# Altium integrated library ICs.IntLib: 71 symbols (part 1 of 2)
Pins are listed as number, name and electrical type; pins without a type are passive.

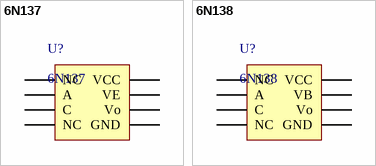
[diagram p0: symbols 6N137 to 6N138]

## 6N137
designator U?
footprint PDIP-8
pins: 1 NC, 2 A, 3 C, 4 NC, 5 GND, 6 Vo, 7 VE, 8 VCC

## 6N138
designator U?
footprint PDIP-8
pins: 1 NC, 2 A, 3 C, 4 NC, 5 GND, 6 Vo, 7 VB, 8 VCC


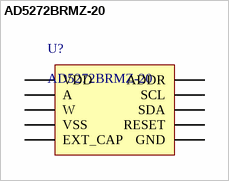
[diagram p1: symbol AD5272BRMZ-20]

## AD5272BRMZ-20
designator U?
Digital Potentiometer ICs 1024p 5v SGL CHI2C 50-TP Mem Digi Rstat; Manufacturer: Texas Instruments; PartNumber: AD5272BRMZ-20; PackageReference: MSOP-10; PackageDescription: MSOP, 10-Leads, Body 3.00x3.00mm, Pitch 0.50mm, IPC Medium Density; Mounting Technology: Surface Mount
footprint MSOP-10 (TSSOP, 10-Leads, Body 3.00x3.00mm, Pitch 0.50mm, IPC Medium Density)
pins: 1 VDD, 2 A, 3 W, 4 VSS, 5 EXT_CAP, 6 GND, 7 RESET, 8 SDA, 9 SCL, 10 ADDR


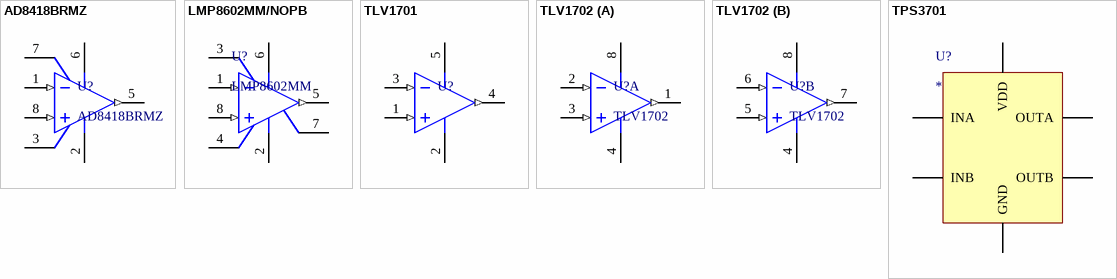
[diagram p2: symbols AD8418BRMZ to TPS3701]

## AD8418BRMZ
designator U?
Current Sense Amplifiers Zero Drift ,Precision Current Sense AMP; Manufacturer: Analog Devices; PartNumber: AD8418BRMZ; Mounting Technology: Surface Mount; PackageReference: MSOP-8; PackageDescription: SOP, 8-Leads, Body 3x3mm, Pitch 0.65mm, IPC Medium Density
footprint MSOP-8 (SOP, 8-Leads, Body 3x3mm, Pitch 0.65mm, IPC Medium Density)
pins: 1 IN- (in), 2 GND (power), 3 VREF2, 5 OUT (out), 6 VS (power), 7 VREF1, 8 IN+ (in)

## LMP8602MM/NOPB
designator U?, comment LMP8602MM
Current Sense Amplifiers 60-V, Bi-Directional, Low- or High-Side, Voltage Output Current Sensing Amplifier 8-VSSOP -40 to 125; Manufacturer: Texas Instruments; PartNumber: LMP8602MM/NOPB; Mounting Technology: Surface Mount; PackageReference: MSOP-8
footprint MSOP-8 (SOP, 8-Leads, Body 3x3mm, Pitch 0.65mm, IPC Medium Density)
pins: 1 IN- (in), 2 GND (power), 3 A1, 4 A2, 5 OUT (out), 6 VS (power), 7 OFS, 8 IN+ (in)

## TLV1701
designator U?  (value not drawn)
1 Channel microPower Comparator; Manufacturer: Texas Instruments; PartNumber: TLV1701; Mounting Technology: Surface Mount; PackageReference: SOT-23; PackageDescription: SOP, 5-Leads, Body 1.75x3mm, Pitch 0.6mm, IPC Medium Density
footprint SOT23/MF05A
pins: 1 IN+ (in), 2 GND (power), 3 IN- (in), 4 OUT (out), 5 VS (power)

## TLV1702
designator U?
2 Channel microPower Comparator; Manufacturer: Texas Instruments; PartNumber: TLV1702; Mounting Technology: Surface Mount; PackageReference: VSSOP-8; PackageDescription: SOP, 8-Leads, Body 3x3mm, Pitch 0.65mm, IPC Medium Density
footprint TSSOP-8 (TSOP, 8-Leads, Body 3.00x3.00mm, Pitch 0.65mm, IPC Medium Density)
part A pins: 1 1OUT (out), 2 1IN- (in), 3 1IN+ (in), 4 GND (power), 8 VS (power)
part B pins: 4 GND (power), 5 2IN+ (in), 6 2IN- (in), 7 2OUT (out), 8 VS (power)

## TPS3701
designator U?
Manufacturer: Texas Instruments; PartNumber: TPS3701; Mounting Technology: Surface Mount; PackageDescription: SOP, 6-Leads, Body 3x3mm, Pitch 0.65mm, IPC Medium Density; PackageReference: SOT-23-6
footprint SOT-23-6 (SOT23, 6-Leads, Body 2.90x1.60mm, Pitch 0.95mm, IPC Medium Density)
pins: 1 OUTA, 2 GND (power), 3 INA, 4 INB, 5 VDD (power), 6 OUTB


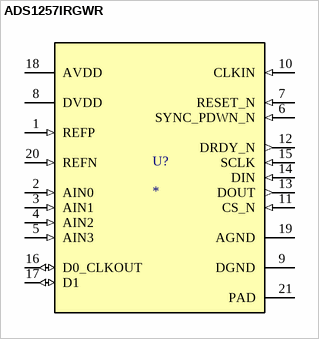
[diagram p3: symbol ADS1257IRGWR]

## ADS1257IRGWR
designator U?
24-Bit, 30kSPS, 4-Ch Industrial ADC With Integrated PGA; PartNumber: ADS1257IRGWR; Alternate_PartNumber: ADS1257IRGW; Manufacturer: Texas Instruments; CompType: IC; PIN_COUNT: 21; Application_BuildNumber: *; PackageReference: RGW0020A; MountType: SMT; RefDes: RefDes; TYPE: TYPE; Value: Value
footprint VQFN-20/RGW
pins: 1 REFP (in), 2 AIN0 (in), 3 AIN1 (in), 4 AIN2 (in), 5 AIN3 (in), 6 SYNC_PDWN_N (in), 7 RESET_N (in), 8 DVDD (power), 9 DGND (power), 10 CLKIN (in), 11 CS_N (in), 12 DRDY_N (out), 13 DOUT (out), 14 DIN (in), 15 SCLK (in), 16 D0_CLKOUT (io), 17 D1 (io), 18 AVDD (power), 19 AGND (power), 20 REFN (in), 21 PAD (power)


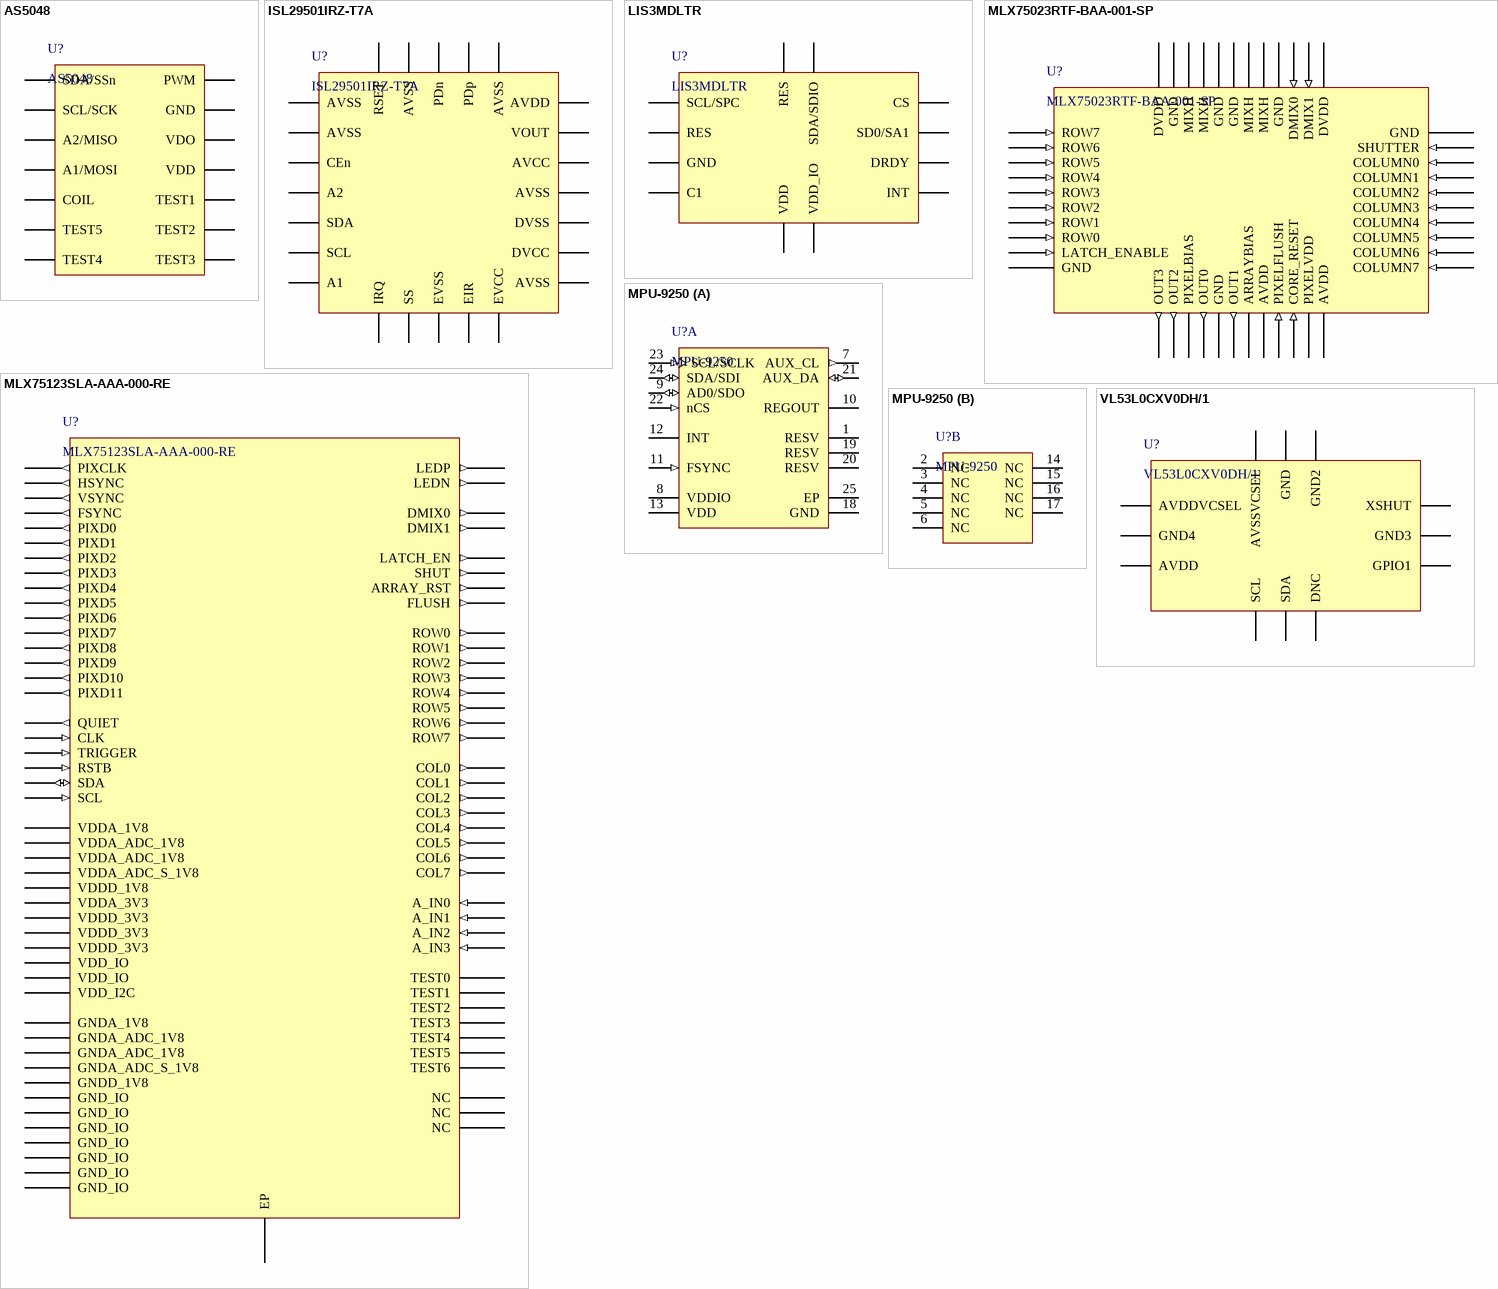
[diagram p4: symbols AS5048 to VL53L0CXV0DH/1]

## AS5048
designator U?
14-bit rotary position sensor with digital angle (interface) and PWM output; Manufacturer: AMS; PartNumber: AS5048; Mounting Technology: Surface Mount; PackageReference: TSSOP-14
footprint TSSOP-14
pins: 1 SDA/SSn, 2 SCL/SCK, 3 A2/MISO, 4 A1/MOSI, 5 COIL, 6 TEST5, 7 TEST4, 8 TEST3, 9 TEST2, 10 TEST1, 11 VDD, 12 VDO, 13 GND, 14 PWM

## ISL29501IRZ-T7A
designator U?
IC TOF SIGNAL PROCESSOR 24QFN; Manufacturer: Intersil; PartNumber: ISL29501IRZ-T7A; Mounting Technology: Surface Mount; PackageReference: QFN-24
footprint QFN-24 (QFN, 24-Leads, Body 4.00x4.00mm, Pitch 0.50mm, Thermal Pad 2.60x3.60mm, IPC Medium Density); pin to pad 23>23+25
pins: 1 AVSS, 2 AVSS, 3 CEn, 4 A2 (power), 5 SDA, 6 SCL, 7 A1, 8 IRQ, 9 SS, 10 EVSS, 11 EIR, 12 EVCC, 13 AVSS, 14 DVCC, 15 DVSS, 16 AVSS, 17 AVCC, 18 VOUT, 19 AVDD, 20 AVSS, 21 PDp, 22 PDn, 23 AVSS, 24 RSET

## LIS3MDLTR
designator U?
Board Mount Hall Effect / Magnetic Sensors Ultra Lo-Pwr Hi Perf 3-Axis 1.9-3.6V; Manufacturer: STMicroelectronics; PartNumber: LIS3MDLTR; Mounting Technology: Surface Mount; PackageReference: LGA-12
footprint LGA-12 (2x2MM) (LGA, 12-Leads, Body 2.00x2.00mmx1.00mm, Pitch 0.50mm)
pins: 1 SCL/SPC, 2 RES, 3 GND, 4 C1, 5 VDD, 6 VDD_IO, 7 INT, 8 DRDY, 9 SD0/SA1, 10 CS, 11 SDA/SDIO, 12 RES

## MLX75023RTF-BAA-001-SP
designator U?
Manufacturer: Melexis; PartNumber: MLX75023RTF-BAA-001-SP; Mounting Technology: Surface Mount; PackageReference: BGA-44
footprint BGA-44 (BGA, 44-Leads, Body 6.61x5.48mmx0.50mm, Pitch 0.48mm)
pins: 1 ROW7 (in), 2 ROW6 (in), 3 ROW5 (in), 4 ROW4 (in), 5 ROW3 (in), 6 ROW2 (in), 7 ROW1 (in), 8 ROW0 (in), 9 LATCH_ENABLE (in), 10 GND (power), 11 OUT3 (out), 12 OUT2 (out), 13 PIXELBIAS, 14 OUT0 (out), 15 GND (power), 16 OUT1 (out), 17 ARRAYBIAS, 18 AVDD (power), 19 PIXELFLUSH (in), 20 CORE_RESET (in), 21 PIXELVDD (power), 22 AVDD (power), 23 COLUMN7 (in), 24 COLUMN6 (in), 25 COLUMN5 (in), 26 COLUMN4 (in), 27 COLUMN3 (in), 28 COLUMN2 (in), 29 COLUMN1 (in), 30 COLUMN0 (in), 31 SHUTTER (in), 32 GND (power), 33 DVDD (power), 34 DMIX1 (in), 35 DMIX0 (in), 36 GND (power), 37 MIXH (power), 38 MIXH (power), 39 GND (power), 40 GND (power), 41 MIXH (power), 42 MIXH (power), 43 GND (power), 44 DVDD (power)

## MLX75123SLA-AAA-000-RE
designator U?
Sensor Interface ToF Companion Chip; Manufacturer: Melexis; PackageReference: AQFN-84; Mounting Technology: Surface Mount; PartNumber: MLX75123SLA-AAA-000-RE
footprint AQFN-84 (Double Row QFN, 84-Leads, Body 7.00x7.00mm, Pitch 0.50mm, Thermal Pad 3.60x3.60mm, IPC High Density)
pins: A1 ROW5 (out), A2 ROW7 (out), A3 ARRAY_RST (out), A4 LATCH_EN (out), A5 GNDA_ADC_1V8 (power), A6 A_IN1 (in), A7 A_IN2 (in), A8 GND_IO (power), A9 VDDA_ADC_1V8 (power), A10 VDDA_ADC_S_1V8 (power), A11 TEST5, A12 SCL (in), A13 TRIGGER (in), A14 RSTB (in), A15 QUIET (out), A16 GNDA_1V8 (power), A16 TEST4, A17 TEST3, A18 GND_IO (power), A19 NC, A20 NC, A21 TEST0, A22 GNDD_1V8 (power), A23 NC, A24 GND_IO (power), A25 PIXD10 (out), A26 PIXD8 (out), A27 PIXD6 (out), A28 PIXD4 (out), A29 PIXD2 (out), A30 PIXD0 (out), A31 FSYNC (out), A32 VSYNC (out), A33 GND_IO (power), A34 LEDN (out), A35 DMIX0 (out), A36 VDDD_3V3 (power), A37 COL7 (out), A38 COL5 (out), A39 COL3 (out), A40 COL1 (out), A41 GND_IO (power), A42 ROW0 (out), A43 ROW2 (out), A44 ROW4 (out), B1 ROW6 (out), B2 SHUT (out), B3 FLUSH (out), B4 VDDA_3V3 (power), B5 VDDA_ADC_1V8 (power), B6 A_IN0 (in), B7 A_IN3 (in), B8 GNDA_ADC_1V8 (power), B9 GNDA_ADC_S_1V8 (power), B10 TEST6, B11 SDA (io), B12 VDD_I2C (power), B13 CLK (in), B14 VDDA_1V8 (power), B15 GND_IO (power), B17 VDDD_3V3 (power), B18 TEST2, B19 TEST1, B20 VDDD_1V8 (power), B21 VDD_IO (power), B22 PIXD11 (out), B23 PIXD9 (out), B24 PIXD7 (out), B25 PIXD5 (out), B26 PIXD3 (out), B27 PIXD1 (out), B28 PIXCLK (out), B29 HSYNC (out), B30 VDD_IO (power), B31 LEDP (out), B32 DMIX1 (out), B33 GND_IO (power), B34 COL6 (out), B35 COL4 (out), B36 COL2 (out), B37 COL0 (out), B38 VDDD_3V3 (power), B39 ROW1 (out), B40 ROW3 (out), EP

## MPU-9250
designator U?
Manufacturer: Invensense; PartNumber: MPU-9250; Mounting Technology: Surface Mount; PackageReference: QFN-24
footprint QFN-24 (6mil) (6mil, Thermal Pad 1.54x1.70mm, IPC High Density)
part A pins: 1 RESV (power) "Reserved. Connect to VDDIO", 7 AUX_CL (out) "I2C Master serial clock, for connecting to external sensors", 8 VDDIO (power) "Digital I/O supply voltage", 9 AD0/SDO (io) "I2C Slave Address LSB (AD0); SPI serial data output (SDO)", 10 REGOUT "Regulator filter capacitor connection", 11 FSYNC (in) "Frame synchronization digital input. Connect to GND if unused", 12 INT (hiz) "Interrupt digital output (totem pole or open-drain)", 13 VDD (power) "Power supply voltage and Digital I/O supply voltage", 18 GND (power) "Pow er supply ground", 19 RESV "Reserved. Do not connect", 20 RESV (power) "Reserved. Connect to GND", 21 AUX_DA (io) "I2C master serial data, for connecting to external sensors", 22 nCS (in) "Chip select (SPI mode only)", 23 SCL/SCLK (in) "I2C serial clock (SCL); SPI serial clock (SCLK)", 24 SDA/SDI (io) "I2C serial data (SDA); SPI serial data input (SDI)", 25 EP
part B pins: 2 NC "Not internally connected. May be used for PCB trace routing", 3 NC "Not internally connected. May be used for PCB trace routing", 4 NC "Not internally connected. May be used for PCB trace routing", 5 NC "Not internally connected. May be used for PCB trace routing", 6 NC "Not internally connected. May be used for PCB trace routing", 14 NC "Not internally connected. May be used for PCB trace routing", 15 NC "Not internally connected. May be used for PCB trace routing", 16 NC "Not internally connected. May be used for PCB trace routing", 17 NC "Not internally connected. May be used for PCB trace routing"

## VL53L0CXV0DH/1
designator U?
Optical Sensor Modules Time-of-Flight (ToF) ranging sensor; Manufacturer: STMicroelectronics; PartNumber: VL53L0CXV0DH/1; Mounting Technology: Surface Mount; PackageReference: LGA-12
footprint LGA-12 (LGA, 12-Leads, Body 4.40x2.40mmx1.05mm, Pitch 0.80mm)
pins: 1 AVDDVCSEL, 2 AVSSVCSEL, 3 GND, 4 GND2, 5 XSHUT, 6 GND3, 7 GPIO1, 8 DNC, 9 SDA, 10 SCL, 11 AVDD, 12 GND4


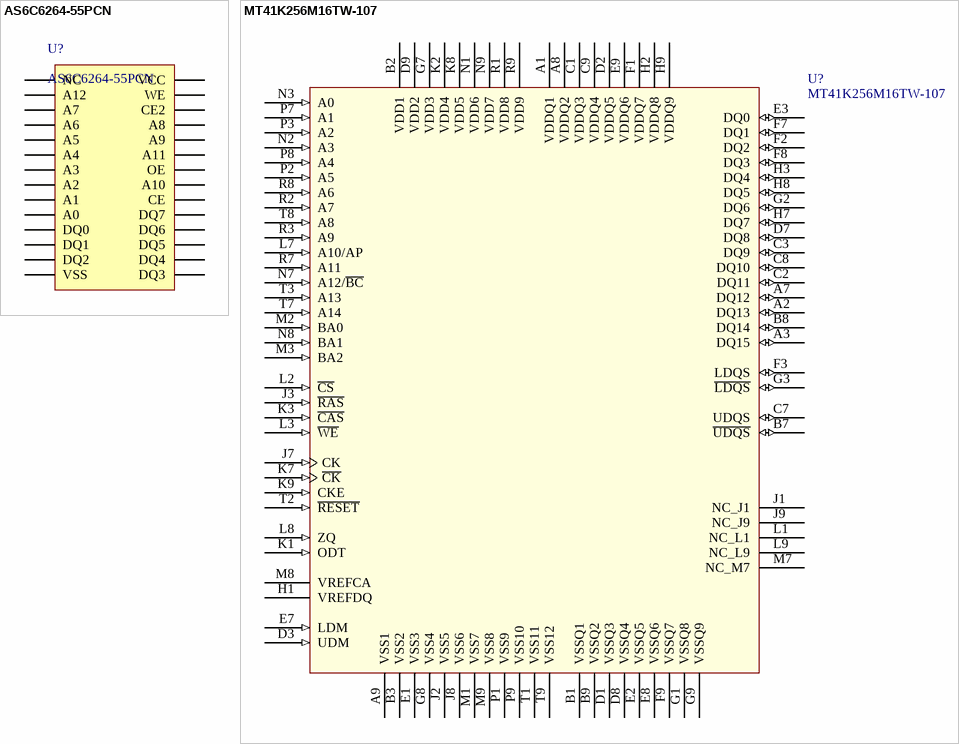
[diagram p5: symbols AS6C6264-55PCN to MT41K256M16TW-107]

## AS6C6264-55PCN
designator U?
Manufacturer: Alliance Memory, Inc.; PartNumber: AS6C6264-55PCN; Mounting Technology: Through Hole; PackageReference: PDIP-28
footprint PDIP-28
pins: 1 NC, 2 A12, 3 A7, 4 A6, 5 A5, 6 A4, 7 A3, 8 A2, 9 A1, 10 A0, 11 DQ0, 12 DQ1, 13 DQ2, 14 VSS, 15 DQ3, 16 DQ4, 17 DQ5, 18 DQ6, 19 DQ7, 20 CE, 21 A10, 22 OE, 23 A11, 24 A9, 25 A8, 26 CE2, 27 WE, 28 VCC

## MT41K256M16TW-107
designator U?
IC SDRAM 4GBIT 933MHZ 96FBGA; Manufacturer: Micron Technology; PartNumber: MT41K256M16TW-107; Mounting Technology: Surface Mount; PackageReference: BGA-96
footprint BGA-96 (BGA, 96-Leads, Body 8.00x14.00mmx1.10mm, Pitch 0.80mm)
pins: A1 VDDQ1 (power), A2 DQ13 (io), A3 DQ15 (io), A7 DQ12 (io), A8 VDDQ2 (power), A9 VSS1 (power), B1 VSSQ1 (power), B2 VDD1 (power), B3 VSS2 (power), B7 ~{UDQS} (io), B8 DQ14 (io), B9 VSSQ2 (power), C1 VDDQ3 (power), C2 DQ11 (io), C3 DQ9 (io), C7 UDQS (io), C8 DQ10 (io), C9 VDDQ4 (power), D1 VSSQ3 (power), D2 VDDQ5 (power), D3 UDM (in), D7 DQ8 (io), D8 VSSQ4 (power), D9 VDD2 (power), E1 VSS3 (power), E2 VSSQ5 (power), E3 DQ0 (io), E7 LDM (in), E8 VSSQ6 (power), E9 VDDQ6 (power), F1 VDDQ7 (power), F2 DQ2 (io), F3 LDQS (io), F7 DQ1 (io), F8 DQ3 (io), F9 VSSQ7 (power), G1 VSSQ8 (power), G2 DQ6 (io), G3 ~{LDQS} (io), G7 VDD3 (power), G8 VSS4 (power), G9 VSSQ9 (power), H1 VREFDQ (power), H2 VDDQ8 (power), H3 DQ4 (io), H7 DQ7 (io), H8 DQ5 (io), H9 VDDQ9 (power), J1 NC_J1, J2 VSS5 (power), J3 ~{RAS} (in), J7 CK (in), J8 VSS6 (power), J9 NC_J9, K1 ODT (in), K2 VDD4 (power), K3 ~{CAS} (in), K7 ~{CK} (in), K8 VDD5 (power), K9 CKE (in), L1 NC_L1, L2 ~{CS} (in), L3 ~{WE} (in), L7 A10/AP (in), L8 ZQ (in), L9 NC_L9, M1 VSS7 (power), M2 BA0 (in), M3 BA2 (in), M7 NC_M7, M8 VREFCA (power), M9 VSS8 (power), N1 VDD6 (power), N2 A3 (in), N3 A0 (in), N7 A12/~{BC} (in), N8 BA1 (in), N9 VDD7 (power), P1 VSS9 (power), P2 A5 (in), P3 A2 (in), P7 A1 (in), P8 A4 (in), P9 VSS10 (power), R1 VDD8 (power), R2 A7 (in), R3 A9 (in), R7 A11 (in), R8 A6 (in), R9 VDD9 (power), T1 VSS11 (power), T2 ~{RESET} (in), T3 A13 (in), T7 A14 (in), T8 A8 (in), T9 VSS12 (power)


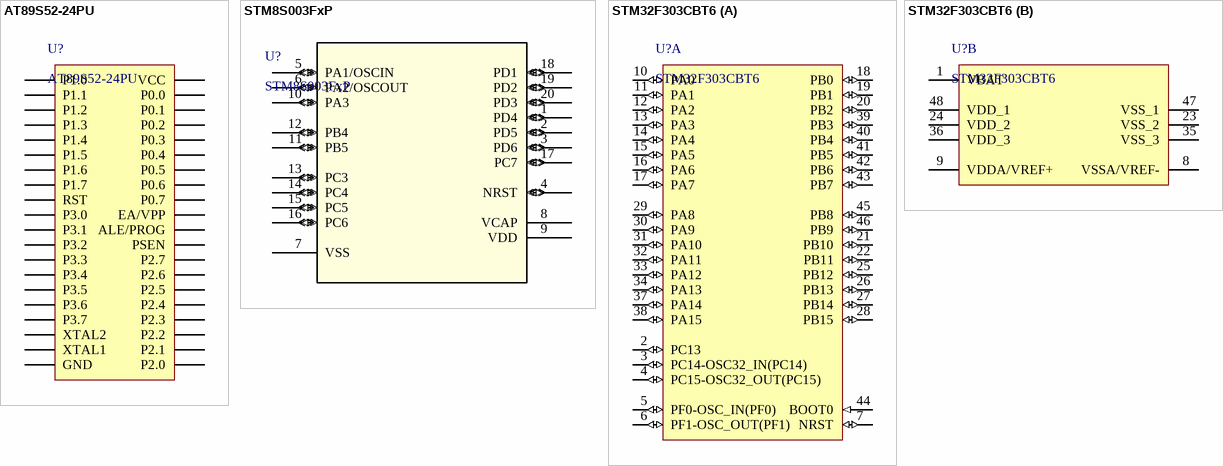
[diagram p6: symbols AT89S52-24PU to STM32F303CBT6]

## AT89S52-24PU
designator U?
Manufacturer: Atmel; PartNumber: AT89S52-24PU; Mounting Technology: Through Hole; PackageReference: PDIP-40
footprint PDIP-40
pins: 1 P1.0, 2 P1.1, 3 P1.2, 4 P1.3, 5 P1.4, 6 P1.5, 7 P1.6, 8 P1.7, 9 RST, 10 P3.0, 11 P3.1, 12 P3.2, 13 P3.3, 14 P3.4, 15 P3.5, 16 P3.6, 17 P3.7, 18 XTAL2, 19 XTAL1, 20 GND, 21 P2.0, 22 P2.1, 23 P2.2, 24 P2.3, 25 P2.4, 26 P2.5, 27 P2.6, 28 P2.7, 29 PSEN, 30 ALE/PROG, 31 EA/VPP, 32 P0.7, 33 P0.6, 34 P0.5, 35 P0.4, 36 P0.3, 37 P0.2, 38 P0.1, 39 P0.0, 40 VCC

## STM8S003FxP
designator U?
8-bit MCU with 8 Kbytes Flash, 16 MHz CPU, integrated EEPROM; Manufacturer: STMicroelectronics; Part Number: STM8S003FxP; Mounting Technology: Surface Mount; PackageReference: TSSOP-20
footprint TSSOP-20
pins: 1 PD4 (io), 2 PD5 (io), 3 PD6 (io), 4 NRST (io), 5 PA1/OSCIN (io), 6 PA2/OSCOUT (io), 7 VSS (power), 8 VCAP (power), 9 VDD (power), 10 PA3 (io), 11 PB5 (io), 12 PB4 (io), 13 PC3 (io), 14 PC4 (io), 15 PC5 (io), 16 PC6 (io), 17 PC7 (io), 18 PD1 (io), 19 PD2 (io), 20 PD3 (io)

## STM32F303CBT6
designator U?
Manufacturer: STMicroelectronics; PartNumber: STM32F303CBT6; Mounting Technology: Surface Mount; PackageReference: LQFP-48; PackageDescription: QFP, 48-Leads, Body 7x7mm, Pitch 0.5mm
footprint LQFP-48 (QFP, 48-Leads, Body 7x7mm, Pitch 0.5mm, IPC High Density)
part A pins: 2 PC13 (io) "PC13/TIM1_CH1N/WKUP2,RTC_TAMP1,RTC_TS,RTC_OUT", 3 PC14-OSC32_IN(PC14) (io) "PC14-OSC32_IN(PC14)/OSC32_IN", 4 PC15-OSC32_OUT(PC15) (io) "PC15-OSC32_OUT(PC15)/OSC32_OUT", 5 PF0-OSC_IN(PF0) (io) "PF0-OSC_IN(PF0)/TIM1_CH3N,I2C2_SDA/OSC_IN", 6 PF1-OSC_OUT(PF1) (io) "PF1-OSC_OUT(PF1)/I2C2_SCL/OSC_OUT", 7 NRST (io) "Device reset input / internal reset output (active low)", 10 PA0 (io) "PA0/USART2_CTS,TIM2_CH1_ETR,TIM8_BKIN,TIM8_ETR,TSC_G1_IO1,COMP1_OUT,EVENTOUT/ADC1_IN1,COMP1_INM,RTC_TAMP2,WKUP1,COMP7_INP", 11 PA1 (io) "PA1/USART2_RTS,TIM2_CH2,TSC_G1_IO2,TIM15_CH1N,RTC_REFIN,EVENTOUT/ADC1_IN2,COMP1_INP,OPAMP1_VINP,OPAMP3_VINP", 12 PA2 (io) "PA2/USART2_TX,TIM2_CH3,TIM15_CH1,TSC_G1_IO3,COMP2_OUT,EVENTOUT/ADC1_IN3,COMP2_INM,OPAMP1_VOUT", 13 PA3 (io) "PA3/USART2_RX,TIM2_CH4,TIM15_CH2,TSC_G1_IO4,EVENTOUT/ADC1_IN4,OPAMP1_VINP,COMP2_INP,OPAMP1_VINM", 14 PA4 (io) "PA4/SPI1_NSS,SPI3_NSS,I2S3_WS,USART2_CK,TSC_G2_IO1,TIM3_CH2,EVENTOUT/ADC2_IN1,DAC1_OUT1,OPAMP4_VINP,COMP1_INM,COMP2_INM,COMP3_INM,COMP4_INM,COMP5_INM,COMP6_INM,COMP7_INM", 15 PA5 (io) "PA5/SPI1_SCK,TIM2_CH1_ETR,TSC_G2_IO2,EVENTOUT/ADC2_IN2,DAC1_OUT2,OPAMP1_VINP,OPAMP2_VINM,OPAMP3_VINP,COMP1_INM,COMP2_INM,COMP3_INM,COMP4_INM,COMP5_INM,COMP6_INM,COMP7_INM", 16 PA6 (io) "PA6/SPI1_MISO,TIM3_CH1,TIM8_BKIN,TIM1_BKIN,TIM16_CH1,COMP1_OUT,TSC_G2_IO3,EVENTOUT/ADC2_IN3,OPAMP2_VOUT", 17 PA7 (io) "PA7/SPI1_MOSI,TIM3_CH2,TIM17_CH1,TIM1_CH1N,TIM8_CH1N,TSC_G2_IO4,COMP2_OUT,EVENTOUT/ADC2_IN4,COMP2_INP,OPAMP2_VINP,OPAMP1_VINP", 18 PB0 (io) "PB0/TIM3_CH3,TIM1_CH2N,TIM8_CH2N,TSC_G3_IO2,EVENTOUT/ADC3_IN12,COMP4_INP,OPAMP3_VINP,OPAMP2_VINP", 19 PB1 (io) "PB1/TIM3_CH4,TIM1_CH3N,TIM8_CH3N,COMP4_OUT,TSC_G3_IO3,EVENTOUT/ADC3_IN1,OPAMP3_VOUT", 20 PB2 (io) "PB2/TSC_G3_IO4,EVENTOUT/ADC2_IN12,COMP4_INM,OPAMP3_VINM", 21 PB10 (io) "PB10/USART3_TX,TIM2_CH3,TSC_SYNC,EVENTOUT/COMP5_INM,OPAMP4_VINM,OPAMP3_VINM", 22 PB11 (io) "PB11/USART3_RX,TIM2_CH4,TSC_G6_IO1,EVENTOUT/COMP6_INP,OPAMP4_VINP", 25 PB12 (io) "PB12/SPI2_NSS,I2S2_WS,I2C2_SMBA,USART3_CK,TIM1_BKIN,TSC_G6_IO2,EVENTOUT/ADC4_IN3,COMP3_INM,OPAMP4_VOUT", 26 PB13 (io) "PB13/SPI2_SCK,I2S2_CK,USART3_CTS,TIM1_CH1N,TSC_G6_IO3,EVENTOUT/ADC3_IN5,COMP5_INP,OPAMP4_VINP,OPAMP3_VINP", 27 PB14 (io) "PB14/SPI2_MISO,I2S2ext_SD,USART3_RTS,TIM1_CH2N,TIM15_CH1,TSC_G6_IO4,EVENTOUT/COMP3_INP,ADC4_IN4,OPAMP2_VINP", 28 PB15 (io) "PB15/SPI2_MOSI,I2S2_SD,TIM1_CH3N,RTC_REFIN,TIM15_CH1N,TIM15_CH2,EVENTOUT/ADC4_IN5,COMP6_INM", 29 PA8 (io) "PA8/I2C2_SMBA,I2S2_MCK,USART1_CK,TIM1_CH1,TIM4_ETR,MCO,COMP3_OUT,EVENTOUT", 30 PA9 (io) "PA9/I2C2_SCL,I2S3_MCK,USART1_TX,TIM1_CH2,TIM2_CH3,TIM15_BKIN,TSC_G4_IO1,COMP5_OUT,EVENTOUT", 31 PA10 (io) "PA10/I2C2_SDA,USART1_RX,TIM1_CH3,TIM2_CH4,TIM8_BKIN,TIM17_BKIN,TSC_G4_IO2,COMP6_OUT,EVENTOUT", 32 PA11 (io) "PA11/USART1_CTS,USB_DM,CAN_RX,TIM1_CH1N,TIM1_CH4,TIM1_BKIN2,TIM4_CH1,COMP1_OUT,EVENTOUT", 33 PA12 (io) "PA12/USART1_RTS,USB_DP,CAN_TX,TIM1_CH2N,TIM1_ETR,TIM4_CH2,TIM16_CH1,COMP2_OUT,EVENTOUT", 34 PA13 (io) "PA13/USART3_CTS,TIM4_CH3,TIM16_CH1N,TSC_G4_IO3,IR_OUT,SWDIO-JTMS,EVENTOUT", 37 PA14 (io) "PA14/I2C1_SDA,USART2_TX,TIM8_CH2,TIM1_BKIN,TSC_G4_IO4,SWCLK-JTCK,EVENTOUT", 38 PA15 (io) "PA15/I2C1_SCL,SPI1_NSS,SPI3_NSS,I2S3_WS,JTDI,USART2_RX,TIM1_BKIN,TIM2_CH1_ETR,TIM8_CH1,EVENTOUT", 39 PB3 (io) "PB3/SPI3_SCK,I2S3_CK,SPI1_SCK,USART2_TX,TIM2_CH2,TIM3_ETR,TIM4_ETR,TIM8_CH1N,TSC_G5_IO1,JTDO-TRACESWO,EVENTOUT", 40 PB4 (io) "PB4/SPI3_MISO,I2S3ext_SD,SPI1_MISO,USART2_RX,TIM3_CH1,TIM16_CH1,TIM17_BKIN,TIM8_CH2N,TSC_G5_IO2,NJTRST,EVENTOUT", 41 PB5 (io) "PB5/SPI3_MOSI,SPI1_MOSI,I2S3_SD,I2C1_SMBA,USART2_CK,TIM16_BKIN,TIM3_CH2,TIM8_CH3N,TIM17_CH1,EVENTOUT", 42 PB6 (io) "PB6/I2C1_SCL,USART1_TX,TIM16_CH1N,TIM4_CH1,TIM8_CH1,TSC_G5_IO3,TIM8_ETR,TIM8_BKIN2,EVENTOUT", 43 PB7 (io) "PB7/I2C1_SDA,USART1_RX,TIM3_CH4,TIM4_CH2,TIM17_CH1N,TIM8_BKIN,TSC_G5_IO4,EVENTOUT", 44 BOOT0 (in) "Boot memory selection", 45 PB8 (io) "PB8/I2C1_SCL,CAN_RX,TIM16_CH1,TIM4_CH3,TIM8_CH2,TIM1_BKIN,TSC_SYNC,COMP1_OUT,EVENTOUT", 46 PB9 (io) "PB9/I2C1_SDA,CAN_TX,TIM17_CH1,TIM4_CH4,TIM8_CH3,IR_OUT,COMP2_OUT,EVENTOUT"
part B pins: 1 VBAT (power) "Backup power supply", 8 VSSA/VREF- (power) "Analog ground/Negative reference voltage", 9 VDDA/VREF+ (power) "Analog power supply/Positive reference voltage", 23 VSS_2 (power) "Digital power supply", 24 VDD_2 (power) "Digital power supply", 35 VSS_3 (power) "Ground", 36 VDD_3 (power) "Digital power supply", 47 VSS_1 (power) "Ground", 48 VDD_1 (power) "Digital power supply"


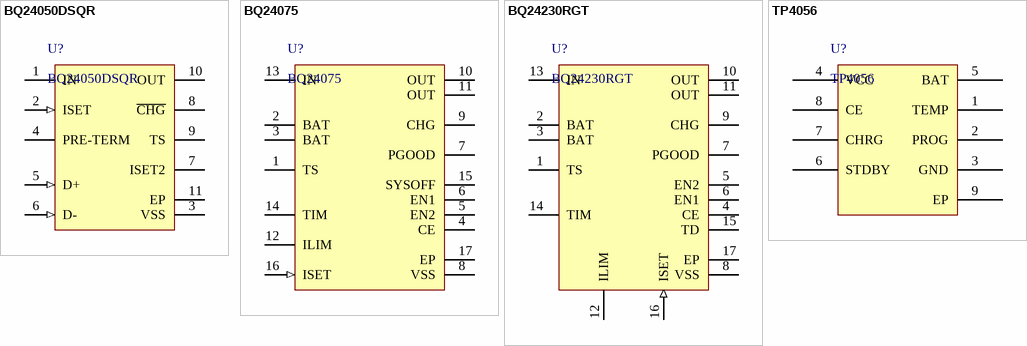
[diagram p7: symbols BQ24050DSQR to TP4056]

## BQ24050DSQR
designator U?
Manufacturer: Texas Instruments; PartNumber: BQ24050DSQR; PackageReference: WSON-10; Mounting Technology: Surface Mount
footprint WSON-10 (SON, 10-Leads, Body 2.00x2.00mm, Pitch 0.40mm, Thermal Pad 1.50x0.79mm, IPC Medium Density)
pins: 1 IN (power) "Input power, connected to external DC supply (AC adapter or USB port). Expected range of bypass capacitors 1 uF to 10 uF, connect from IN to VSS.", 2 ISET (in) "Programs the Fast-charge current setting. External resistor from ISET to VSS defines fast charge current value. Range is 10.8k (50mA) to 675 ohm (800mA).", 3 VSS (power) "Ground terminal.", 4 PRE-TERM "Programs the Current Termination Threshold (5 to 50% of Iout which is set by ISET) and Sets the Pre-Charge Current to twice the Termination Current Level. Expected range of programming resistor is 1k to 10 k ohm(2k: IOUT / (See Datasheet)", 5 D+ (in) "USB port D+ input connection.", 6 D- (in) "USB port D- input connection.", 7 ISET2 "Programming the Input / Output Current Limit for the USB or Adaptor source: High =500 mA max, Low = ISET, FLOAT = 100mA max. D+ D- Detection initially sets the charge threshold and requires ISET2 to change states to take (See Datasheet)", 8 ~{CHG} (hiz) "Low (FET on) indicates charging and Open Drain (FET off) indicates no Charging or Charge complete.", 9 TS "Temperature sense pin connected to ' 0/55 -10k at 25C NTC thermistor, ' 2 - 100k NTC at 25 degC, in the battery pack. Floating TS Pin or pulling High puts part in TTDM and disable TS monitoring, Timers and Termination. (See Datasheet)", 10 OUT (power) "Battery Connection. System Load may be connected. Average load should not be excessive, allowing battery to charge within the 10 hour safety timer window. Expected range of bypass capacitors 1 uF to 10 uF.", 11 EP (power) "There is an internal electrical connection between the exposed thermal pad and the VSS pin of the device. The thermal pad must be connected to the same potential as the VSS pin on the printed circuit board. Do not use the (See Datasheet)"

## BQ24075
designator U?
Standalone 1-Cell 1.5-A Linear Battery Charger with Power Path; Manufacturer: Texas Instruments; PartNumber: BQ24075; PackageReference: VQFN-16; Mounting Technology: Surface Mount
footprint QFN-16 (QFN, 16-Leads, Body 3.00x3.00mm, Pitch 0.50mm, Thermal Pad 1.80x1.80mm, IPC Medium Density)
pins: 1 TS "External NTC Thermistor Input. connect a 10-kΩ fixed resistor from TS to VSS", 2 BAT (hiz) "Low (FET on) indicates charging and Open Drain (FET off) indicates no Charging or Charge complete.", 3 BAT (hiz) "Low (FET on) indicates charging and Open Drain (FET off) indicates no Charging or Charge complete.", 4 CE "Charge Enable Active-Low Input. Connect CE to a low logic level to enable the battery charger", 5 EN2 "Input Current Limit Configuration Input.", 6 EN1 "Input Current Limit Configuration Input.", 7 PGOOD "Input Current Limit Configuration Input.", 8 VSS (power) "Ground terminal.", 9 CHG "Input Current Limit Configuration Input.", 10 OUT (power) "Battery Connection. System Load may be connected. Average load should not be excessive, allowing battery to charge within the 10 hour safety timer window. Expected range of bypass capacitors 1 uF to 10 uF.", 11 OUT (power) "Battery Connection. System Load may be connected. Average load should not be excessive, allowing battery to charge within the 10 hour safety timer window. Expected range of bypass capacitors 1 uF to 10 uF.", 12 ILIM "Input Current Limit Configuration Input.", 13 IN (power) "Input power, connected to external DC supply (AC adapter or USB port). Expected range of bypass capacitors 1 uF to 10 uF, connect from IN to VSS.", 14 TIM (hiz) "Timer Programming Input.", 15 SYSOFF (hiz) "Termination DIsable Input.", 16 ISET (in) "Programs the Fast-charge current setting. External resistor from ISET to VSS defines fast charge current value. Range is 10.8k (50mA) to 675 ohm (800mA).", 17 EP (power) "There is an internal electrical connection between the exposed thermal pad and the VSS pin of the device. The thermal pad must be connected to the same potential as the VSS pin on the printed circuit board. Do not use the (See Datasheet)"

## BQ24230RGT
designator U?
USB-Friendly Lithium-Ion Battery Charger And Power-Path Managemen tIC; Manufacturer: Texas Instruments; PartNumber: BQ24230RGT; PackageReference: VQFN-16; Mounting Technology: Surface Mount
footprint QFN-16 (QFN, 16-Leads, Body 3.00x3.00mm, Pitch 0.50mm, Thermal Pad 1.80x1.80mm, IPC Medium Density)
pins: 1 TS "External NTC Thermistor Input. connect a 10-kΩ fixed resistor from TS to VSS", 2 BAT (hiz) "Low (FET on) indicates charging and Open Drain (FET off) indicates no Charging or Charge complete.", 3 BAT (hiz) "Low (FET on) indicates charging and Open Drain (FET off) indicates no Charging or Charge complete.", 4 CE "Charge Enable Active-Low Input. Connect CE to a low logic level to enable the battery charger", 5 EN2 "Input Current Limit Configuration Input.", 6 EN1 "Input Current Limit Configuration Input.", 7 PGOOD "Input Current Limit Configuration Input.", 8 VSS (power) "Ground terminal.", 9 CHG "Input Current Limit Configuration Input.", 10 OUT (power) "Battery Connection. System Load may be connected. Average load should not be excessive, allowing battery to charge within the 10 hour safety timer window. Expected range of bypass capacitors 1 uF to 10 uF.", 11 OUT (power) "Battery Connection. System Load may be connected. Average load should not be excessive, allowing battery to charge within the 10 hour safety timer window. Expected range of bypass capacitors 1 uF to 10 uF.", 12 ILIM "Input Current Limit Configuration Input.", 13 IN (power) "Input power, connected to external DC supply (AC adapter or USB port). Expected range of bypass capacitors 1 uF to 10 uF, connect from IN to VSS.", 14 TIM (hiz) "Timer Programming Input.", 15 TD (hiz) "Termination DIsable Input.", 16 ISET (in) "Programs the Fast-charge current setting. External resistor from ISET to VSS defines fast charge current value. Range is 10.8k (50mA) to 675 ohm (800mA).", 17 EP (power) "There is an internal electrical connection between the exposed thermal pad and the VSS pin of the device. The thermal pad must be connected to the same potential as the VSS pin on the printed circuit board. Do not use the (See Datasheet)"

## TP4056
designator U?
1 CELL Li-ion Battery Charger; Manufacturer: Nanjing Extension Microelectronics; PartNumber: TP4056; PackageReference: SOP-8; Mounting Technology: Surface Mount
footprint SOIC-8-EP (SOIC, 8-Leads, Body 4.90x3.90mm, Pitch 1.27mm, IPC Medium Density)
pins: 1 TEMP, 2 PROG, 3 GND, 4 VCC, 5 BAT, 6 STDBY, 7 CHRG, 8 CE, 9 EP


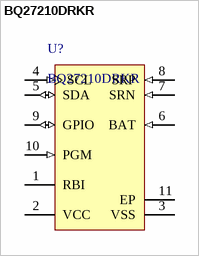
[diagram p8: symbol BQ27210DRKR]

## BQ27210DRKR
designator U?
Manufacturer: Texas Instruments; PartNumber: BQ27210DRKR; PackageReference: VSON-10; Mounting Technology: Surface Mount
footprint VSON-10 (SON, 10-Leads, Body 4x3mm, Pitch 0.5mm, Thermal Pad 3.8x2.65mm)
pins: 1 RBI (power) "Register back-up input", 2 VCC (power) "VCC supply input", 3 VSS (power) "Ground input", 4 SCL (in) "Serial clock input (I2C)", 5 SDA (io) "Serial data input (I2C)", 6 BAT (in) "Battery voltage sense input", 7 SRN (in) "Current sense input (negative)", 8 SRP (in) "Current sense input (positive)", 9 GPIO (io) "General purpose input/output", 10 PGM (in) "EEPROM programming voltage input", 11 EP (power) "Ground shield"


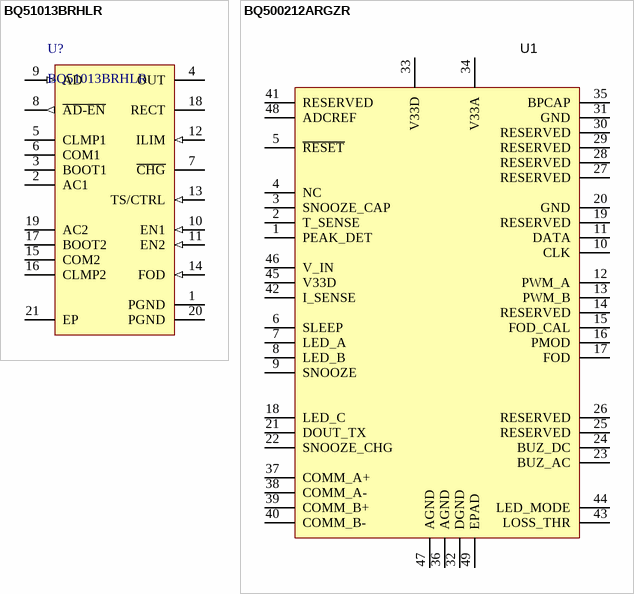
[diagram p9: symbols BQ51013BRHLR to BQ500212ARGZR]

## BQ51013BRHLR
designator U?
Manufacturer: Texas Instruments; PartNumber: BQ51013BRHLR; Mounting Technology: Surface Mount; PackageReference: VQFN-20
footprint VQFN-20 (QFN, 20-Leads, Body 4.5x3.5mm, Pitch 0.5mm, Thermal Pad 3.05x2.05mm, TI Recommended)
pins: 1 PGND (power) "Power ground", 2 AC1 (power) "AC input from receiver coil antenna.", 3 BOOT1 "Bootstrap capacitors for driving the high-side FETs of the synchronous rectifier. Connect a 10 nF ceramic capacitor from BOOT1 to AC1 and from BOOT2 to AC2.", 4 OUT (power) "Output pin, delivers power to the load", 5 CLMP1 (oc) "Open drain FETs which are utilized for a non-power dissipative over-voltage AC clamp protection. When the RECT voltage goes above 15 V, both switches will be turned on and the capacitors will act as a low impedance to (See Datasheet)", 6 COM1 (oc) "Open-drain output used to communicate with primary by varying reflected impedance. Connect through a capacitor to either AC1 or AC2 for capacitive load modulation (COM2 must be connected to the alternate AC1 or AC2 pin). For (See Datasheet)", 7 ~{CHG} (oc) "Open-drain output - active when output current is being delivered to the load (i.e. when the output of the supply is enabled).", 8 ~{AD-EN} (out) "Push-pull driver for external PFET connecting AD and OUT. This node is pulled to the higher of OUT and AD when turning off the external FET. This voltage tracks approximately 4 V below AD when voltage is present at AD and (See Datasheet)", 9 AD (in) "Connect this pin to the wired adapter input. When a voltage is applied to this pin wireless charging is disabled and AD_EN is driven low. Connect to GND through a 1 uF capacitor. If unused, capacitor is not required and (See Datasheet)", 10 EN1 (in) "Inputs that allow user to enable/disable wireless and wired charging <EN1 EN2>: <00> wireless charging is enabled unless AD voltage > 3.6 V <01> Dynamic communication current limit disabled <10> A\D\-\E\N\ pulled low, (See Datasheet)", 11 EN2 (in) "Inputs that allow user to enable/disable wireless and wired charging <EN1 EN2>: <00> wireless charging is enabled unless AD voltage > 3.6 V <01> Dynamic communication current limit disabled <10> A\D\-\E\N\ pulled low, (See Datasheet)", 12 ILIM (in) "Programming pin for the over current limit. Connect external resistor to VSS. Size RILIM with the following equation: RILIM = 250 / IMAX where IMAX is the expected maximum output current of the wireless power supply. The (See Datasheet)", 13 TS/CTRL (in) "Must be connected to ground via a resistor. If an NTC function is not desired connect to GND with a 10 kohm resistor. As a CTRL pin pull to ground to send end power transfer (EPT) fault to the transmitter or pull-up to an (See Datasheet)", 14 FOD (in) "Input for the recieved power measurement. Connect to GND with a 188 ohm resistor. Please refer FOD section for more detail.", 15 COM2 (oc) "Open-drain output used to communicate with primary by varying reflected impedance. Connect through a capacitor to either AC1 or AC2 for capacitive load modulation (COM2 must be connected to the alternate AC1 or AC2 pin). For (See Datasheet)", 16 CLMP2 (oc) "Open drain FETs which are utilized for a non-power dissipative over-voltage AC clamp protection. When the RECT voltage goes above 15 V, both switches will be turned on and the capacitors will act as a low impedance to (See Datasheet)", 17 BOOT2 "Bootstrap capacitors for driving the high-side FETs of the synchronous rectifier. Connect a 10 nF ceramic capacitor from BOOT1 to AC1 and from BOOT2 to AC2.", 18 RECT "Filter capacitor for the internal synchronous rectifier. Connect a ceramic capacitor to PGND. Depending on the power levels, the value may be 4.7 uF to 22 uF.", 19 AC2 (power) "AC input from receiver coil antenna.", 20 PGND (power) "Power ground", 21 EP

## BQ500212ARGZR
designator U1  (value not drawn)
IC, Qi Compliant Wireless Power Transmitter Manager; Manufacturer: Texas Instruments; PackageReference: VQFN-48; PartNumber: BQ500212ARGZR; Mounting Technology: Surface Mount
footprint QFN-48 (0.5MM) (QFN, 48-Leads, Body 7.00x7.00mm, Pitch 0.50mm, Thermal Pad 5.15x5.15mm, IPC Medium Density)
pins: 1 PEAK_DET, 2 T_SENSE, 3 SNOOZE_CAP, 4 NC, 5 ~{RESET}, 6 SLEEP, 7 LED_A, 8 LED_B, 9 SNOOZE, 10 CLK, 11 DATA, 12 PWM_A, 13 PWM_B, 14 RESERVED, 15 FOD_CAL, 16 PMOD, 17 FOD, 18 LED_C, 19 RESERVED, 20 GND, 21 DOUT_TX, 22 SNOOZE_CHG, 23 BUZ_AC, 24 BUZ_DC, 25 RESERVED, 26 RESERVED, 27 RESERVED, 28 RESERVED, 29 RESERVED, 30 RESERVED, 31 GND, 32 DGND, 33 V33D, 34 V33A, 35 BPCAP, 36 AGND, 37 COMM_A+, 38 COMM_A-, 39 COMM_B+, 40 COMM_B-, 41 RESERVED, 42 I_SENSE, 43 LOSS_THR, 44 LED_MODE, 45 V33D, 46 V_IN, 47 AGND, 48 ADCREF, 49 EPAD


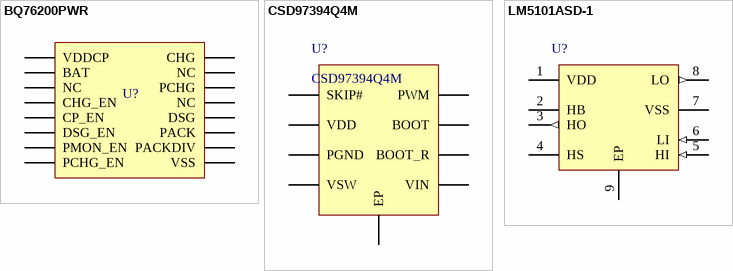
[diagram p10: symbols BQ76200PWR to LM5101ASD-1]

## BQ76200PWR
designator U?  (value not drawn)
Battery Management Fast high side NCH drive; Manufacturer: Texas Instruments; PartNumber: BQ76200PWR; PackageReference: TSSOP-16; Mounting Technology: Surface Mount
footprint TSSOP-16
pins: 1 VDDCP, 2 BAT, 3 NC, 4 CHG_EN, 5 CP_EN, 6 DSG_EN, 7 PMON_EN, 8 PCHG_EN, 9 VSS, 10 PACKDIV, 11 PACK, 12 DSG, 13 NC, 14 PCHG, 15 NC, 16 CHG

## CSD97394Q4M
designator U?
Manufacturer: Texas Instruments; PartNumber: CSD97394Q4M; Mounting Technology: Surface Mount; PackageReference: VSON-CLIP
footprint VSON-CLIP (SON, 18-Leads, Body 4.50x3.50mm, Pitch 0.40mm, Thermal Pad 3.95x1.99mm, IPC Medium Density)
pins: 1 SKIP#, 2 VDD, 3 PGND, 4 VSW, 5 VIN, 6 BOOT_R, 7 BOOT, 8 PWM, 9 EP

## LM5101ASD-1
designator U?
PartNumber: LM5101ASD-1; Manufacturer: Texas Instruments; PackageReference: 8-WSON; PackageDescription: 8-WDFN Exposed Pad; Mounting Technology: Surface Mount
footprint WDFN-8 (SON, 8-Leads, Body 3.00x3.00mm, Pitch 0.65mm, Thermal Pad 2.00x1.47mm, IPC Medium Density)
pins: 1 VDD (power) "Supply. This pin powers input buffers, logic and the low side gate driver output directly and the high side gate driver output through an external diode connected between this pin and BOOST (Pin 6). A low ESR ceramic bypass (See Datasheet)", 2 HB, 3 HO (out), 4 HS, 5 HI (in), 6 LI (in), 7 VSS (power), 8 LO (out), 9 EP (power) "Ground. Must be soldered to PCB ground for optimal thermal performance."


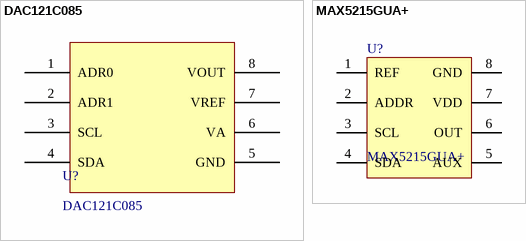
[diagram p11: symbols DAC121C085 to MAX5215GUA+]

## DAC121C085
designator U?
12 Bit Digital to Analog Converter; Manufacturer: Texas Instruments; Mounting Technology: Surface Mount; PartNumber: DAC121C085; PackageReference: VSSOP-8
footprint TSSOP-8 (TSOP, 8-Leads, Body 3.00x3.00mm, Pitch 0.65mm, IPC Medium Density)
pins: 1 ADR0, 2 ADR1, 3 SCL, 4 SDA, 5 GND, 6 VA, 7 VREF, 8 VOUT

## MAX5215GUA+
designator U?
14 Bit Digital to Analog Converter; Manufacturer: Maxim Integrated; PartNumber: MAX5215GUA+; Mounting Technology: Surface Mount; PackageReference: MSOP-8
footprint MSOP-8 (SOP, 8-Leads, Body 3x3mm, Pitch 0.65mm, IPC Medium Density)
pins: 1 REF, 2 ADDR, 3 SCL, 4 SDA, 5 AUX, 6 OUT, 7 VDD (power), 8 GND (power)


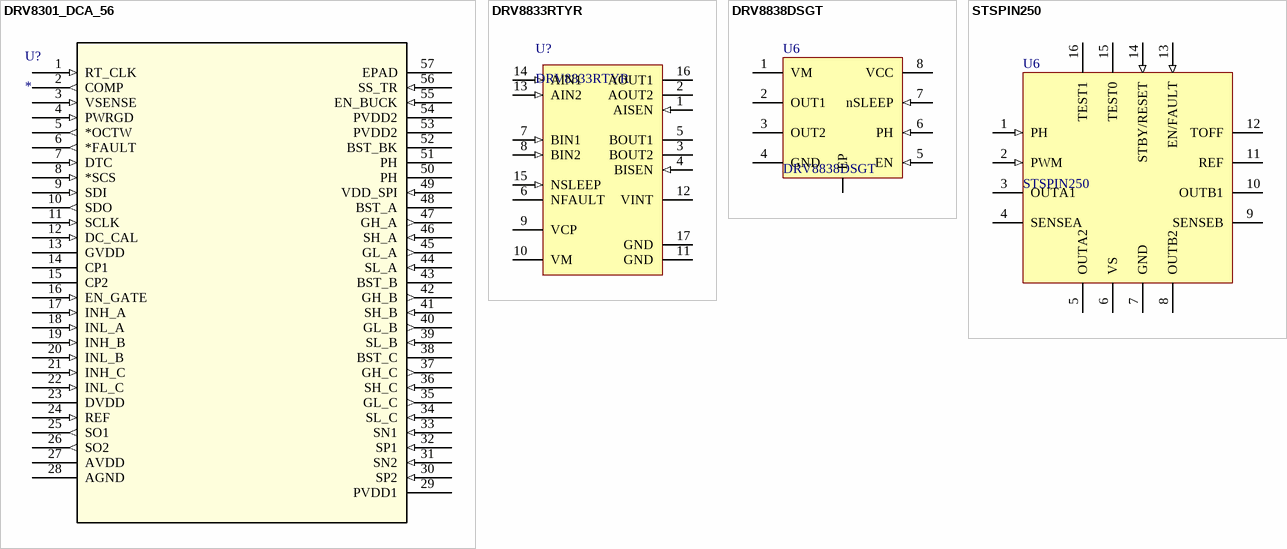
[diagram p12: symbols DRV8301_DCA_56 to STSPIN250]

## DRV8301_DCA_56
designator U?
Imported; Manufacturer: Texas Instruments; GENERIC_PART_NUMBER: DRV8301; PartNumber: DRV8301_DCA; FAMILY_NAME: 3-PHASE BRUSHLESS PRE-DRIVER; PIN_COUNT: 56; PACKAGE_DESIGNATOR: DCA; Datasheet_URL: http://www.ti.com/lit/gpn/DRV8301; PackageReference: HTSSOP; Vendor: Texas Instruments; Value: Value; Type: Type; RefDes: RefDes
footprint DCA56_6P35X3P61
pins: 1 RT_CLK (in), 2 COMP (out), 3 VSENSE (in), 4 PWRGD (in), 5 *OCTW (out), 6 *FAULT (out), 7 DTC (in), 8 *SCS (in), 9 SDI (in), 10 SDO (out), 11 SCLK (in), 12 DC_CAL (in), 13 GVDD (power), 14 CP1 (power), 15 CP2 (power), 16 EN_GATE (in), 17 INH_A (in), 18 INL_A (in), 19 INH_B (in), 20 INL_B (in), 21 INH_C (in), 22 INL_C (in), 23 DVDD (power), 24 REF (in), 25 SO1 (out), 26 SO2 (out), 27 AVDD (power), 28 AGND (power), 29 PVDD1 (power), 30 SP2 (in), 31 SN2 (in), 32 SP1 (in), 33 SN1 (in), 34 SL_C (in), 35 GL_C (out), 36 SH_C (in), 37 GH_C (out), 38 BST_C (power), 39 SL_B (in), 40 GL_B (out), 41 SH_B (in), 42 GH_B (out), 43 BST_B (power), 44 SL_A (in), 45 GL_A (out), 46 SH_A (in), 47 GH_A (out), 48 BST_A (power), 49 VDD_SPI (in), 50 PH, 51 PH, 52 BST_BK (power), 53 PVDD2 (power), 54 PVDD2 (power), 55 EN_BUCK (in), 56 SS_TR (in), 57 EPAD

## DRV8833RTYR
designator U?
Manufacturer: Texas Instruments; PartNumber: DRV8833RTYR; Mounting Technology: Surface Mount; PackageReference: QFN-16
footprint QFN-16 (0.65mm) (QFN, 16-Leads, Body 4.00x4.00mm, Pitch 0.65mm, Thermal Pad 2.10x2.10mm, IPC Medium Density)
pins: 1 AISEN (in) "Bridge A ground / Isense", 2 AOUT2 (hiz) "Bridge A output 2", 3 BOUT2 (hiz) "Bridge B output 2", 4 BISEN (in) "Bridge B ground / Isense", 5 BOUT1 (hiz) "Bridge B output 1", 6 NFAULT (oc) "Fault output", 7 BIN1 (in) "Bridge B input 1", 8 BIN2 (in) "Bridge B input 2", 9 VCP "High-side gate drive voltage", 10 VM (power) "Device power supply", 11 GND (power) "Device ground", 12 VINT "Internal supply bypass", 13 AIN2 (in) "Bridge A input 2", 14 AIN1 (in) "Bridge A input 1", 15 NSLEEP (in) "Sleep mode input", 16 AOUT1 (hiz) "Bridge A output 1", 17 GND (power)

## DRV8838DSGT
designator U6
Half Bridge (2) Driver DC Motors, Solenoids NMOS 8-WSON (2x2); Manufacturer: Texas Instruments; PartNumber: DRV8838DSGT; Mounting Technology: Surface Mount; PackageReference: WSON-8
footprint WSON-8 (SON, 8-Leads, Body 2.00x2.00mm, Pitch 0.50mm, Thermal Pad 1.60x0.69mm, IPC Medium Density)
pins: 1 VM (power) "Motor speed indication output", 2 OUT1 (hiz) "Internal regulator output (for decoupling only)", 3 OUT2 (hiz) "Single-phase coil output pin", 4 GND (power) "Negative voltage supply (ground)", 5 EN (in) "PWM input signal for speed control", 6 PH (in) "Positive voltage supply for motor driver", 7 nSLEEP (in) "Single-phase coil output pin", 8 VCC (power) "Single-phase coil output pin", 9 EP

## STSPIN250
designator U6
Manufacturer: STMicroelectronics; PartNumber: STSPIN250; Mounting Technology: Surface Mount; PackageReference: QFN-16
footprint QFN-16 (QFN, 16-Leads, Body 3.00x3.00mm, Pitch 0.50mm, Thermal Pad 1.80x1.80mm, IPC Medium Density); pin to pad 7>7+17
pins: 1 PH (in) "Positive voltage supply for motor driver", 2 PWM (in) "PWM input signal for speed control", 3 OUTA1 (hiz), 4 SENSEA (hiz), 5 OUTA2 (power), 6 VS (power), 7 GND (power), 8 OUTB2 (hiz), 9 SENSEB (hiz) "Internal regulator output (for decoupling only)", 10 OUTB1 (hiz), 11 REF (hiz), 12 TOFF (hiz), 13 EN/FAULT (in) "Single-phase coil output pin", 14 STBY/RESET (in) "Single-phase coil output pin", 15 TEST0 (power) "Single-phase coil output pin", 16 TEST1 (power) "Single-phase coil output pin"


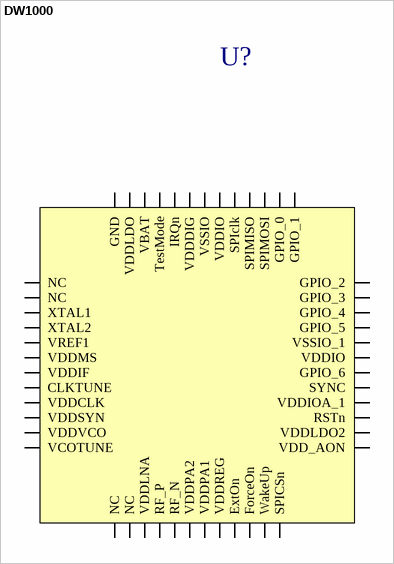
[diagram p13: symbol DW1000]

## DW1000
designator U?  (value not drawn)
UWB DW1000; Part Number: DW1000-I-TR13; Manufacturer: Decawave Limited; PackageReference: QFN-48; Mounting Technology: Surface Mount
footprint QFN-48 (Footprint not found)
pins: 1 NC, 2 NC, 3 XTAL1, 4 XTAL2, 5 VREF1, 6 VDDMS, 7 VDDIF, 8 CLKTUNE, 9 VDDCLK, 10 VDDSYN, 11 VDDVCO, 12 VCOTUNE, 13 NC, 14 NC, 15 VDDLNA, 16 RF_P, 17 RF_N, 18 VDDPA2, 19 VDDPA1, 20 VDDREG, 21 ExtOn, 22 ForceOn, 23 WakeUp, 24 SPICSn, 25 VDD_AON, 26 VDDLDO2, 27 RSTn, 28 VDDIOA_1, 29 SYNC, 30 GPIO_6, 31 VDDIO, 32 VSSIO_1, 33 GPIO_5, 34 GPIO_4, 35 GPIO_3, 36 GPIO_2, 37 GPIO_1, 38 GPIO_0, 39 SPIMOSI, 40 SPIMISO, 41 SPIclk, 42 VDDIO, 43 VSSIO, 44 VDDDIG, 45 IRQn, 46 TestMode, 47 VBAT, 48 VDDLDO, 49 GND


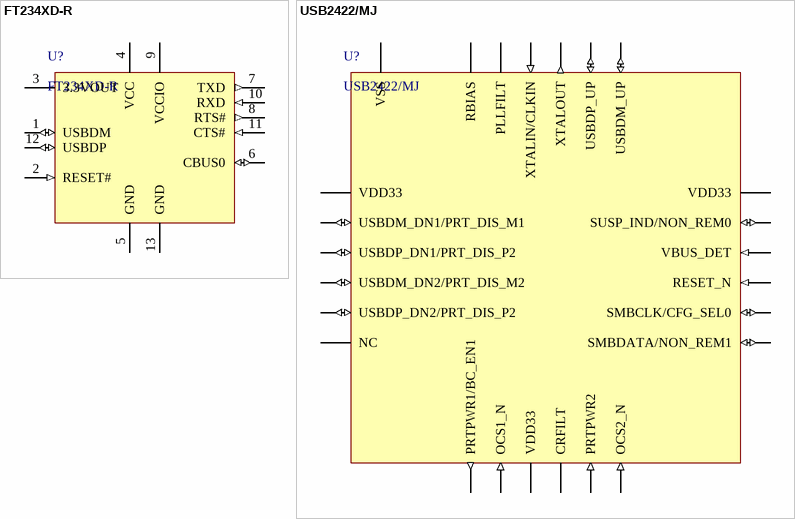
[diagram p14: symbols FT234XD-R to USB2422/MJ]

## FT234XD-R
designator U?
USB Interface IC USB to Serial UART Interface; Manufacturer: FTDI; PartNumber: FT234XD-R; PackageReference: DFN-12; Mounting Technology: Surface Mount
footprint DFN-12 (SON, 12-Leads, Body 3x3mm, Pitch 0.45mm, Thermal Pad 2.5x1.6mm)
pins: 1 USBDM (io) "USB Data Signal Minus.", 2 RESET# (in) "Reset input (active low).", 3 3.3VOUT (power) "3.3V output at 50mA. May be used to power VCCIO. When VCC is 3.3V; pin 3 is an input pin and should be connected to pin 4.", 4 VCC (power) "5 V (or 3.3V) supply to IC", 5 GND (power) "0V Ground input.", 6 CBUS0 (io) "Configurable CBUS I/O Pin. Function of this pin is configured in the device MTP memory. The default configuration is TXDEN.", 7 TXD (out) "Transmit Asynchronous Data Output.", 8 RTS# (out) "Request to Send Control Output / Handshake Signal.", 9 VCCIO (power) "1.8V - 3.3V supply for the IO cells", 10 RXD (in) "Receiving Asynchronous Data Input.", 11 CTS# (in) "Clear To Send Control Input / Handshake Signal.", 12 USBDP (io) "USB Data Signal Plus.", 13 GND (power) "0V Ground input."

## USB2422/MJ
designator U?
USB Hub IC 2-Port; Manufacturer: Microchip; PartNumber: USB2422/MJ; PackageReference: QFN-24; Mounting Technology: Surface Mount
footprint QFN-24 (4x4MM) (QFN, 24-Leads, Body 4.00x4.00mm, Pitch 0.50mm, Thermal Pad 2.50x2.50mm, IPC Medium Density)
pins: 1 VDD33 (power), 2 USBDM_DN1/PRT_DIS_M1 (io), 3 USBDP_DN1/PRT_DIS_P2 (io), 4 USBDM_DN2/PRT_DIS_M2 (io), 5 USBDP_DN2/PRT_DIS_P2 (io), 6 NC, 7 PRTPWR1/BC_EN1 (out), 8 OCS1_N (in), 9 VDD33 (power), 10 CRFILT, 11 PRTPWR2 (in), 12 OCS2_N (in), 13 SMBDATA/NON_REM1 (io), 14 SMBCLK/CFG_SEL0 (io), 15 RESET_N (in), 16 VBUS_DET (in), 17 SUSP_IND/NON_REM0 (io), 18 VDD33 (power), 19 USBDM_UP (io), 20 USBDP_UP (io), 21 XTALOUT (out), 22 XTALIN/CLKIN (in), 23 PLLFILT, 24 RBIAS, 25 VSS (power)


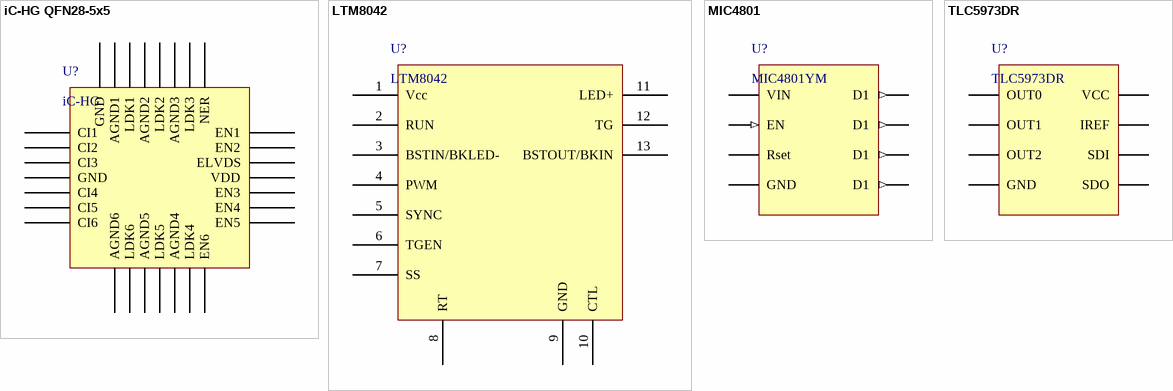
[diagram p15: symbols iC-HG QFN28-5x5 to TLC5973DR]

## iC-HG QFN28-5x5
designator U?, comment iC-HG
PartNumber: iC-HG QFN28-5x5; Manufacturer: iC-Haus; Mounting Technology: Surface Mount; PackageReference: QFN-28
footprint QFN-28 (QFN, 28-Leads, Body 5.00x5.00mm, Pitch 0.50mm, Thermal Pad 3.15x3.15mm, IPC Medium Density)
pins: 1 CI1, 2 CI2, 3 CI3, 4 GND, 5 CI4, 6 CI5, 7 CI6, 8 AGND6, 9 LDK6, 10 AGND5, 11 LDK5, 12 AGND4, 13 LDK4, 14 EN6, 15 EN5, 16 EN4, 17 EN3, 18 VDD, 19 ELVDS, 20 EN2, 21 EN1, 22 NER, 23 LDK3, 24 AGND3, 25 LDK2, 26 AGND2, 27 LDK1, 28 AGND1, 29 GND

## LTM8042
designator U?
Manufacturer: Linear Technology; PartNumber: LTM8042EV#PBF; Mounting Technology: Surface Mount; PackageReference: LGA
footprint LGA-77 (LGA, 77-Leads, Body 9.00x15.00mmx2.82mm, Pitch 1.27mm); pin to pad 1>A6+A7+B6+B7 2>F1 3>C5+C6+C7+D5+D6+D7 4>K1 5>G1 6>L3 7>J1 8>H1 9>A1+A2+A3+A4+A5+B1+B2+B3+B4+B5+C1+C2+C3+C4+D1+D2+D3+D4+E1+E2+E3+E4+E5+E6+E7+F2+F3+F4+F5+F6+F7+G2+G3+G4+H2+H3+H4+J2+J3+J4+K2+K3+K4+L1+L4 10>L2 11>K5+K6+K7+L5+L6+L7 12>J7 13>G5+G6+G7+H5+H6+H7+J5+J6
pins: 1 Vcc, 2 RUN, 3 BSTIN/BKLED-, 4 PWM, 5 SYNC, 6 TGEN, 7 SS, 8 RT, 9 GND, 10 CTL, 11 LED+, 12 TG, 13 BSTOUT/BKIN

## MIC4801
designator U?, comment MIC4801YM
600mA Single Channel WLED Driver w/ Ultrafast PWM Control; Manufacturer: Microchips; PartNumber: MIC4801YM; Mounting Technology: Surface Mount; PackageReference: SOIC-8
footprint SOIC-8 (SOIC, 8-Leads, Body 4.90x3.90mm, Pitch 1.27mm, IPC Medium Density)
pins: 1 VIN (power), 2 EN (in), 3 Rset, 4 GND (power), 5 D1 (out), 6 D1 (out), 7 D1 (out), 8 D1 (out)

## TLC5973DR
designator U?
LED Lighting Drivers 3Ch 12B PWM Constant Crnt LED Dvr; Manufacturer: Texas Instruments; PartNumber: TLC5973DR; Mounting Technology: Surface Mount; PackageReference: SOIC-8
footprint SOIC-8 (SOIC, 8-Leads, Body 4.90x3.90mm, Pitch 1.27mm, IPC Medium Density)
pins: 1 OUT0, 2 OUT1, 3 OUT2, 4 GND (power), 5 SDO, 6 SDI, 7 IREF, 8 VCC (power)


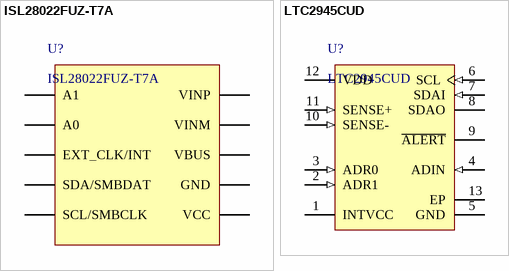
[diagram p16: symbols ISL28022FUZ-T7A to LTC2945CUD]

## ISL28022FUZ-T7A
designator U?
Manufacturer: Intersil; PartNumber: ISL28022FUZ-T7A; Mounting Technology: Surface Mount; PackageReference: MSOP-10
footprint MSOP-10 (TSSOP, 10-Leads, Body 3.00x3.00mm, Pitch 0.50mm, IPC Medium Density)
pins: 1 A1, 2 A0, 3 EXT_CLK/INT, 4 SDA/SMBDAT, 5 SCL/SMBCLK, 6 VCC (power), 7 GND (power), 8 VBUS, 9 VINM, 10 VINP

## LTC2945CUD
designator U?
Power Supply Controller General Purpose 12-QFN (3x3); Manufacturer: Linear Technology; PartNumber: LTC2945CUD#PBF; Mounting Technology: Surface Mount; PackageReference: QFN-12
footprint QFN-12 (QFN, 12-Leads, Body 3.1x3.1mm, Pitch 0.5mm, Thermal Pad 1.65x1.65mm, IPC High Density)
pins: 1 INTVCC (power) "Internal Low Voltage Supply Input/Output. This pin is used to power internal circuitry. It can be configured as a direct input for a low voltage supply, as linear regulator from higher voltage supply connected to VDD, or as (See Datasheet)", 2 ADR1 (in) "I2C Device Address Inputs. Connecting these pins to INTVCC, GND or leaving the pins open configures one of nine possible addresses. See Table 1 in Applications Information section for details.", 3 ADR0 (in) "I2C Device Address Inputs. Connecting these pins to INTVCC, GND or leaving the pins open configures one of nine possible addresses. See Table 1 in Applications Information section for details.", 4 ADIN (in) "ADC Input. The onboard ADC measures voltages between 0V and 2.048V. Tie to ground if unused.", 5 GND (power) "Device Ground.", 6 SCL (in) "I2C Bus Clock Input. Data at the SDAI pin is shifted in or out on rising edges of SCL. This pin is driven by an open-collector output from a master controller. An external pull-up resistor or current source is required and (See Datasheet)", 7 SDAI (in) "I2C Bus Data Input. Used for shifting in address, command or data bits. This pin is driven by an opencollector output from a master controller. An external pull-up resistor or current source is required and can be placed (See Datasheet)", 8 SDAO (oc) "I2C Bus Data Output. Open-drain output used for sending data back to the master controller or acknowledging a write operation. An external pull-up resistor or current source is required.", 9 ~{ALERT} (oc) "Fault Alert Output. Open drain logic output that is pulled to ground after an ADC conversion resulted in a fault to alert the host controller. A fault alert is enabled by setting the corresponding bit in the ALERT register (See Datasheet)", 10 SENSE- (in) "Current Sense Input. Connect an external sense resistor between SENSE+ and SENSE-. The differential voltage between SENSE+ and SENSE- is monitored by the onboard ADC with a full-scale sense voltage of 102.4mV.", 11 SENSE+ (in) "Supply Voltage and Current Sense Input. Used as a supply and current sense input for the internal current sense amplifier. The voltage at this pin is monitored by the onboard ADC with a full-scale input range of 102.4V. See (See Datasheet)", 12 VDD (power) "High Voltage Supply Input. This pin powers an internal series regulator with input voltages ranging from 4V to 80V and produces 5V at INTVCC when the input voltage is above 7V. Connect a bypass capacitor between 0.1uF and (See Datasheet)", 13 EP (power) "Exposed pad may be left open or connected to device ground. For best thermal performance, connect to a large PCB area."


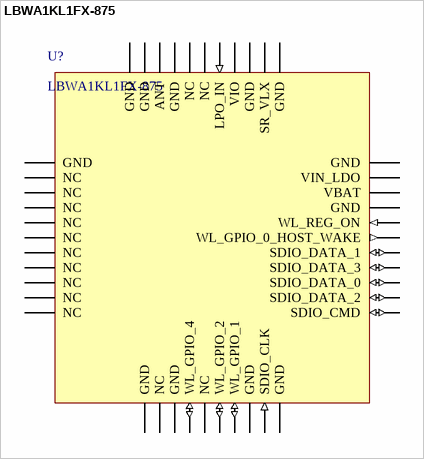
[diagram p17: symbol LBWA1KL1FX-875]

## LBWA1KL1FX-875
designator U?
WI-FI-B/G/N NETWORK CONTROLLER; Manufacturer: Murata; PartNumber: LBWA1KL1FX-875; PackageReference: Module; Mounting Technology: Surface Mount
footprint LGA-42 (LGA, 42-Leads, Body 5.15x6.95mmx1.10mm, Pitch 0.45mm)
pins: 1 GND, 2 NC, 3 NC, 4 NC, 5 NC, 6 NC, 7 NC, 8 NC, 9 NC, 10 NC, 11 NC, 12 GND, 13 NC, 14 GND, 15 WL_GPIO_4 (io), 16 NC, 17 WL_GPIO_2 (io), 18 WL_GPIO_1 (io), 19 GND, 20 SDIO_CLK (in), 21 GND, 22 SDIO_CMD (io), 23 SDIO_DATA_2 (io), 24 SDIO_DATA_0 (io), 25 SDIO_DATA_3 (io), 26 SDIO_DATA_1 (io), 27 WL_GPIO_0_HOST_WAKE (out), 28 WL_REG_ON (in), 29 GND, 30 VBAT, 31 VIN_LDO, 32 GND, 33 GND, 34 SR_VLX, 35 GND, 36 VIO, 37 LPO_IN (in), 38 NC, 39 NC, 40 GND, 41 ANT, 42 GND, 43 GND


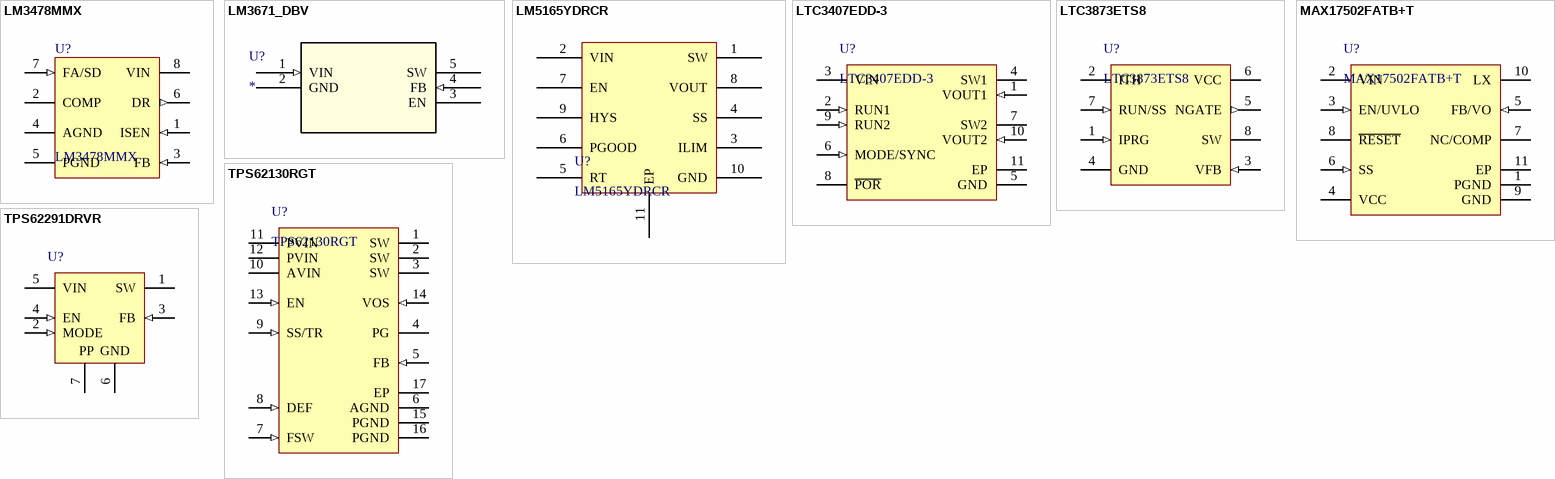
[diagram p18: symbols LM3478MMX to TPS62291DRVR]

## LM3478MMX
designator U?
High Efficiency Low-Side N-Channel Controller for Switching Regulator, 8-pin MSOP, Pb-Free, 1000 Reel; PartNumber: LM3478MMX/NOPB; Manufacturer: Texas Instruments; Mounting Technology: Surface Mount; PackageReference: MSOP-8
footprint MSOP-8 (SOP, 8-Leads, Body 3x3mm, Pitch 0.65mm, IPC Medium Density)
pins: 1 ISEN (in), 2 COMP, 3 FB (in), 4 AGND (power), 5 PGND (power), 6 DR (out), 7 FA/SD (in), 8 VIN (power)

## LM3671_DBV
designator U?
600-mA Step-Down DC-DC Converter; Manufacturer: Texas Instruments; PartNumber: LM3671_DBV; basePN: LM3671; DatasheetURL: http://www.ti.com/lit/ds/symlink/lm3671.pdf; PackageReference: MF05A; Vendor: Texas Instruments; Value: Value; Type: Type; RefDes: RefDes
footprint SOT23/MF05A
pins: 1 VIN (in), 2 GND (power), 3 EN, 4 FB (in), 5 SW

## LM5165YDRCR
designator U?
LM5165 3-V to 65-V Input, 150-mA Synchronous Buck Converter; Manufacturer: Texas Instruments; PartNumber: LM5165YDRCR; Mounting Technology: Surface Mount; PackageReference: VSON-10
footprint VSON-10 (3mmx3mm) (VSON, 10-Leads, Body 3.00x3.00mm, Pitch 0.50mm, Thermal Pad 2.40x1.49mm, IPC Medium Density)
pins: 1 SW, 2 VIN, 3 ILIM, 4 SS, 5 RT, 6 PGOOD, 7 EN, 8 VOUT, 9 HYS, 10 GND, 11 EP

## LTC3407EDD-3
designator U?
Manufacturer: Linear Technology; PartNumber: LTC3407EDD-3; PackageReference: SON-10; Mounting Technology: Surface Mount
footprint VSON-10 (3mmx3mm) (VSON, 10-Leads, Body 3.00x3.00mm, Pitch 0.50mm, Thermal Pad 2.40x1.49mm, IPC Medium Density)
pins: 1 VOUT1 (in) "Output Voltage Feedback Pin for Channel 1. An internal resistive divider divides the output voltage down for comparison to the internal reference voltage.", 2 RUN1 (in) "Regulator 1 Enable. Forcing this pin to VIN enables regulator 1, while forcing it to GND causes regulator 1 to shut down. Do not float this pin.", 3 VIN (power) "Main Power Supply. Must be closely decoupled to GND.", 4 SW1 (power) "Regulator 1 Switch Node Connection to the Inductor. This pin swings from VIN to GND", 5 GND (power) "Ground. This pin is not connected internally. Connect to PCB ground for shielding", 6 MODE/SYNC (in) "Combination Mode Selection and Oscillator Synchronization. This pin controls the operation of the device. When tied to VIN or GND, Burst Mode operation or pulse-skipping mode is selected, respectively. The oscillation (See Datasheet)", 7 SW2 (power) "Regulator 2 Switch Node Connection to the Inductor. This pin swings from VIN to GND.", 8 ~{POR} (oc) "Power-On Reset . This common-drain logic output is pulled to GND when the output voltage falls below -8.5% of regulation and goes high after 117ms when both channels are within regulation.", 9 RUN2 (in) "Regulator 2 Enable. Forcing this pin to VIN enables regulator 2, while forcing it to GND causes regulator 2 to shut down. Do not float this pin", 10 VOUT2 (in) "Output Voltage Feedback Pin for Channel 2. An internal resistive divider divides the output voltage down for comparison to the internal reference voltage.", 11 EP (power) "Power Ground. Connect to the (-) terminal of COUT, and (-) terminal of CIN. Must be connected to electrical ground on PCB."

## LTC3873ETS8
designator U?
PartNumber: LTC3873ETS8#PBF; Manufacturer: Linear Technology; PackageReference: TSOT-23-8; Mounting Technology: Surface Mount
footprint SOT-23-8 (SOT23, 8-Leads, Body 2.90x1.60mm, Pitch 0.65mm, IPC Medium Density)
pins: 1 IPRG (in) "Current Sense Limit Select Pin.", 2 ITH "This pin serves as the error ampli?er compensation point. Nominal voltage range for this pin is 0.7V to 1.9V.", 3 VFB (in) "This pin receives the feedback voltage from an external resistor divider across the output.", 4 GND (power) "Ground Pin.", 5 NGATE (out) "Gate Drive for the External N-Channel MOSFET. This pin swings from 0V to VIN.", 6 VCC (power) "Supply Pin. This pin must be closely decoupled to GND (Pin 4).", 7 RUN/SS (in) "Shutdown and External Soft-Start Pin. In shutdown, all functions are disabled and the NGATE pin is held low.", 8 SW "Switch node connection to inductor and current sense input pin through external slope compensation resistor. Normally, the external N-channel MOSFET’s drain is connected to this pin."